# Altium footprint library STC89C52RC-40贴片_2021-12-16.PcbLib: 1 footprints
Each footprint in its own frame and in the unit in brackets; x right, y up, seen from the top. Pads: shape width x height; smd on the part's side, far side on the other; paste and mask are expansions set on the pad; w line width, h text height; cw(c..) or ccw(c..) is an arc to the next point about the centre after c.
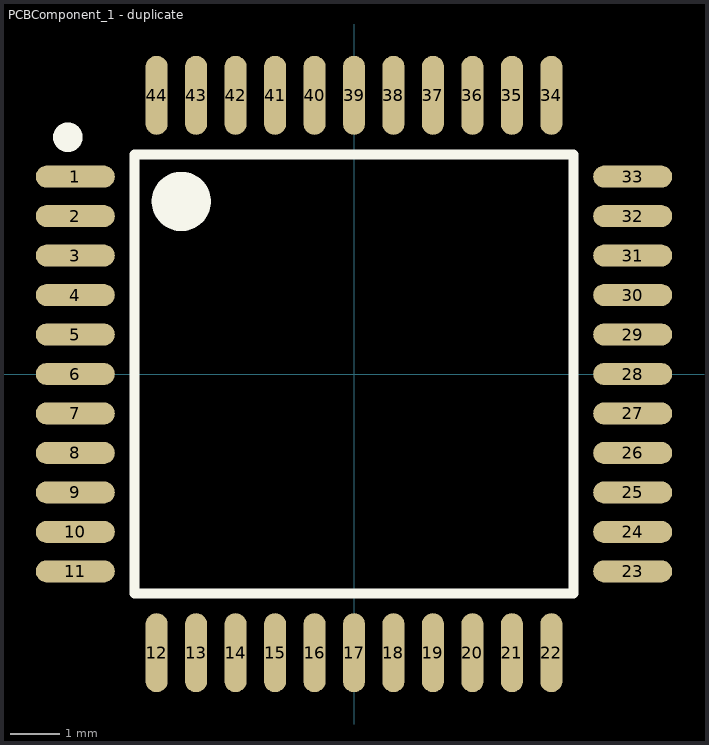
[diagram p0: the footprint, top view; thin cyan lines are the x and y axes]

## PCBComponent_1 - duplicate [mm]
pads (44):
  oval 1.6x0.45 smd: 1(-5.649,4) 2(-5.649,3.2) 3(-5.649,2.4) 4(-5.649,1.6) 5(-5.649,0.8) 6(-5.649,0) 7(-5.649,-0.8) 8(-5.649,-1.6) 9(-5.649,-2.4) 10(-5.649,-3.2) 11(-5.649,-4) 23(5.649,-4) 24(5.649,-3.2) 25(5.649,-2.4) 26(5.649,-1.6) 27(5.649,-0.8) 28(5.649,0) 29(5.649,0.8) 30(5.649,1.6) 31(5.649,2.4) 32(5.649,3.2) 33(5.649,4)
  oval 0.45x1.6 smd: 12(-4,-5.649) 13(-3.2,-5.649) 14(-2.4,-5.649) 15(-1.6,-5.649) 16(-0.8,-5.649) 17(0,-5.649) 18(0.8,-5.649) 19(1.6,-5.649) 20(2.4,-5.649) 21(3.2,-5.649) 22(4,-5.649) 34(4,5.649) 35(3.2,5.649) 36(2.4,5.649) 37(1.6,5.649) 38(0.8,5.649) 39(0,5.649) 40(-0.8,5.649) 41(-1.6,5.649) 42(-2.4,5.649) 43(-3.2,5.649) 44(-4,5.649)
Top Overlay:
  lines w0.2: -4.45,-4.45 -4.45,4.45 4.45,4.45 4.45,-4.45 -4.45,-4.45
  lines w0.3: -5.649,4.798 cw(c-5.799,4.799) -5.649,4.801
  lines w0.6: -3.2,3.495 cw(c-3.5,3.498) -3.2,3.5